# Altium footprint library CON_2Pin RAHeader.PcbLib: 1 footprints
Each footprint in its own frame and in the unit in brackets; x right, y up, seen from the top. Pads: shape width x height; smd on the part's side, far side on the other; paste and mask are expansions set on the pad; w line width, h text height; cw(c..) or ccw(c..) is an arc to the next point about the centre after c.
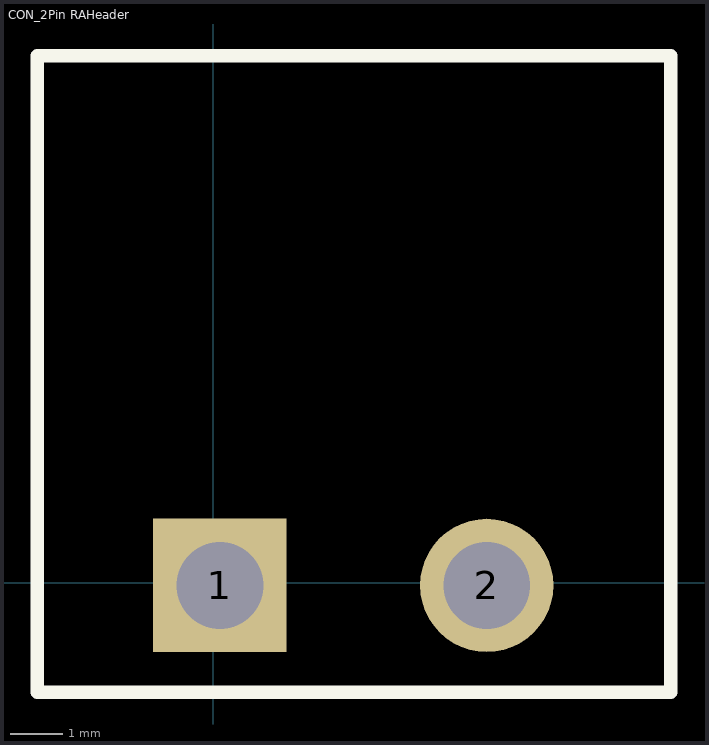
[diagram p0: the footprint, top view; thin cyan lines are the x and y axes]

## CON_2Pin RAHeader [mil] "Two Pin Header"
pads (2):
  rect 100x100 hole 65: 1(5,-2)
  round 100 hole 65: 2(205,-2)
Top Overlay:
  lines w10: -132,-82 343,-82 343,395 -132,395 -132,-82
3D body: height 338.58, standoff -137.8, extent -134.37,-80 344.37,392.53